# Altium footprint library PCB - LEADED - DIOM5236X261N.PCBLIB: 1 footprints
Each footprint in its own frame and in the unit in brackets; x right, y up, seen from the top. Pads: shape width x height; smd on the part's side, far side on the other; paste and mask are expansions set on the pad; w line width, h text height; cw(c..) or ccw(c..) is an arc to the next point about the centre after c.
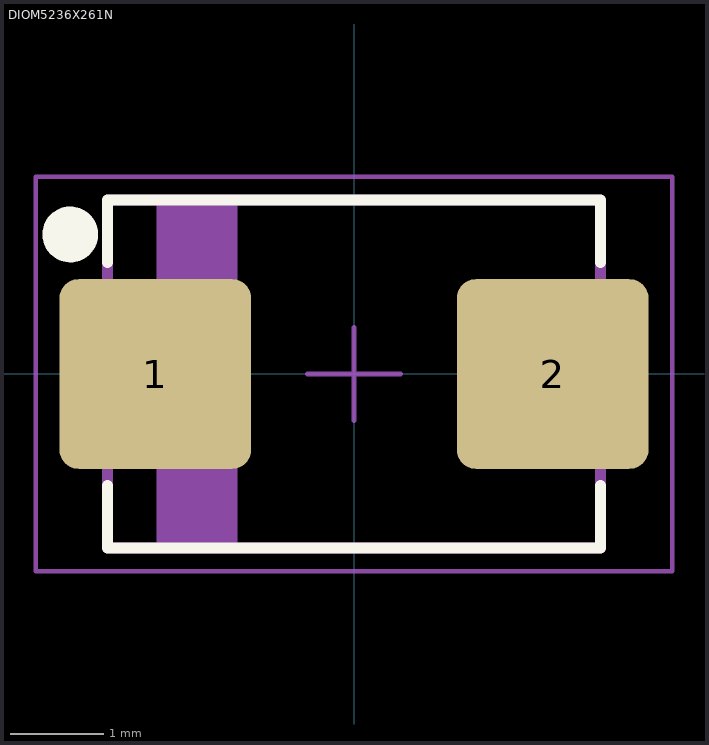
[diagram p0: the footprint, top view; thin cyan lines are the x and y axes]

## DIOM5236X261N [mm]
height 2.61
pads (2):
  rrect20% 2.06x2.04 smd: 1(-2.135,0) 2(2.135,0)
Top Overlay:
  circle w0.3: c-3.05,1.5 r0.15
  lines w0.12: -2.65,-1.2 -2.65,-1.87 2.65,-1.87 2.65,-1.2 ; -2.65,1.2 -2.65,1.87 2.65,1.87 2.65,1.2
M5 Assembly Top:
  rectangle: -2.125,-1.875 -1.25,1.875
  lines w0.12: -2.65,-1.87 -2.65,1.87 2.65,1.87 2.65,-1.87 -2.65,-1.87
  text ".Designator" at -0.9,-0.775 h1.52
Mechanical 15:
  lines w0.05: -0.5,0 0.5,0 ; 0,-0.5 0,0.5 ; -3.42,-2.12 -3.42,2.12 3.42,2.12 3.42,-2.12 -3.42,-2.12
3D body "User Library-DO-214AA_SMB.STEP": height 2.2, standoff -0.05, extent -2.65,-1.85 2.65,1.85